# Altium footprint library SON50P300X80_HS-13N.PcbLib: 1 footprints
Each footprint in its own frame and in the unit in brackets; x right, y up, seen from the top. Pads: shape width x height; smd on the part's side, far side on the other; paste and mask are expansions set on the pad; w line width, h text height; cw(c..) or ccw(c..) is an arc to the next point about the centre after c.
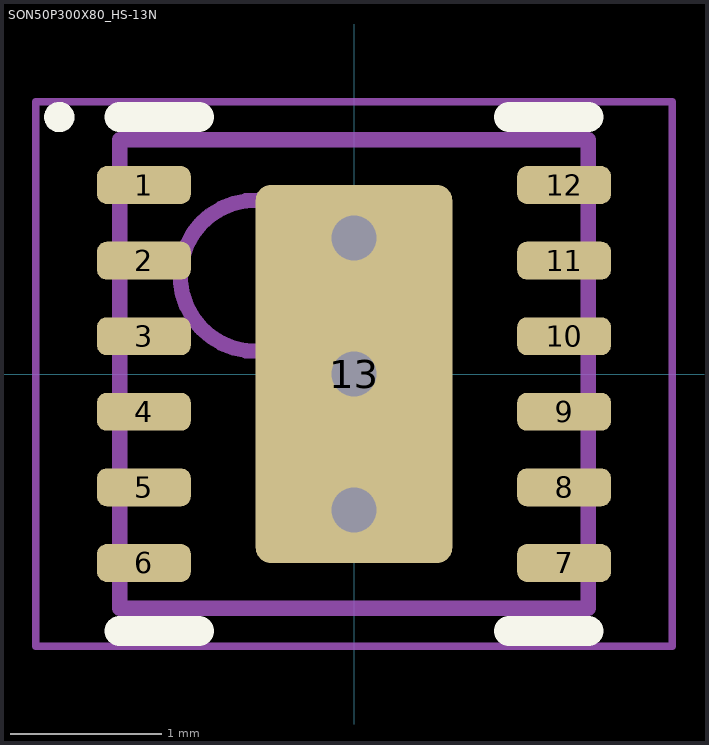
[diagram p0: the footprint, top view; thin cyan lines are the x and y axes]

## SON50P300X80_HS-13N [mm] "SON, 12-Leads, Body 3.00x3.00mm, Pitch 0.50mm, Thermal Pad 2.50x1.30mm, IPC Medium Density"
height 0.8
pads (13):
  rrect50% 0.62x0.25 smd mask+0.05: 1(-1.39,1.25) 2(-1.39,0.75) 3(-1.39,0.25) 4(-1.39,-0.25) 5(-1.39,-0.75) 6(-1.39,-1.25) 7(1.39,-1.25) 8(1.39,-0.75) 9(1.39,-0.25) 10(1.39,0.25) 11(1.39,0.75) 12(1.39,1.25)
  rrect15% 1.3x2.5 smd paste-15 mask+0.05: 13(0,0)
via 0,0 diameter 0.6 hole 0.3
via 0,0.9 diameter 0.6 hole 0.3
via 0,-0.9 diameter 0.6 hole 0.3
Top Overlay:
  circle w0.1: c-1.95,1.7 r0.05
  lines w0.2: -1.55,-1.7 -1.025,-1.7 ; -1.55,1.7 -1.025,1.7 ; 1.025,-1.7 1.55,-1.7 ; 1.025,1.7 1.55,1.7
Top Paste:
  region: -0.525,0.1 -0.55,0.1 -0.596,0.119 -0.631,0.154 -0.65,0.2 -0.65,0.225 -0.65,1.075 -0.65,1.1 -0.631,1.146 -0.596,1.181 -0.55,1.2 -0.525,1.2 0.525,1.2 0.55,1.2 0.596,1.181 0.631,1.146 0.65,1.1 0.65,1.075 0.65,0.225 0.65,0.2 0.631,0.154 0.596,0.119 0.55,0.1 0.525,0.1
  region: 0.522,-0.099 0.547,-0.099 0.593,-0.118 0.628,-0.153 0.647,-0.199 0.647,-0.224 0.647,-1.074 0.647,-1.099 0.628,-1.145 0.593,-1.18 0.547,-1.199 0.522,-1.199 -0.528,-1.199 -0.552,-1.199 -0.598,-1.18 -0.634,-1.145 -0.653,-1.099 -0.653,-1.074 -0.653,-0.224 -0.653,-0.199 -0.634,-0.153 -0.598,-0.118 -0.552,-0.099 -0.528,-0.099
Top Assembly:
  circle w0.1: c-0.65,0.65 r0.5
  lines w0.1: -1.55,-1.55 -1.55,1.55 1.55,1.55 1.55,-1.55 -1.55,-1.55
Top Courtyard:
  lines w0.05: -2.105,-1.8 -2.105,1.8 2.105,1.8 2.105,-1.8 -2.105,-1.8
  lines w0.1: -0.5,0 0.5,0 ; 0,-0.5 0,0.5
3D body "SON50P300X80_HS-13N.step": height 0.8, standoff 0, extent -1.6,-1.55 1.6,1.55